# Altium footprint library WSON6.PcbLib: 1 footprints
Each footprint in its own frame and in the unit in brackets; x right, y up, seen from the top. Pads: shape width x height; smd on the part's side, far side on the other; paste and mask are expansions set on the pad; w line width, h text height; cw(c..) or ccw(c..) is an arc to the next point about the centre after c.
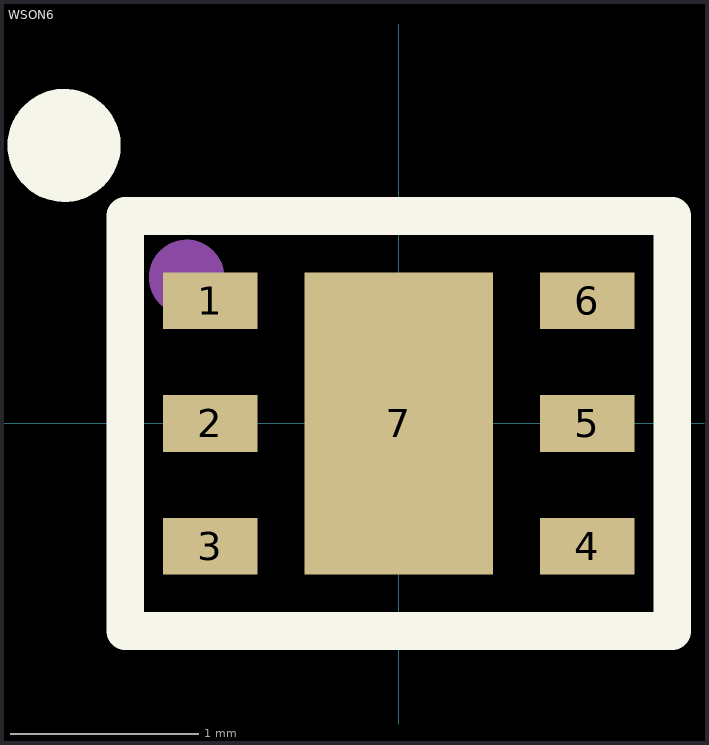
[diagram p0: the footprint, top view; thin cyan lines are the x and y axes]

## WSON6 [mm]
pads (7):
  rect 0.5x0.3 smd: 1(-1,0.65) 2(-1,0) 3(-1,-0.65) 4(1,-0.65) 5(1,0) 6(1,0.65)
  rect 1x1.6 smd: 7(0,0)
Top Overlay:
  circle w0.3: c-1.775,1.475 r0.15
  lines w0.2: -1.45,-1.1 -1.45,1.1 1.45,1.1 1.45,-1.1 -1.45,-1.1
Top Assembly:
  circle w0.2: c-1.125,0.775 r0.1
  lines w0.1: -1.45,-1.1 -1.45,1.1 1.45,1.1 1.45,-1.1 -1.45,-1.1
  text "'.Designator'" at -0.825,-0.325 h0.7
3D body "User Library-wson6-drv.step": height 0.8, standoff 0, extent -1.01,-1 1.01,1